# Altium schematic symbol library SS2FH10-M3&slash_H.SchLib: 2 symbols
Pins are listed as number, name and electrical type; pins without a type are passive.

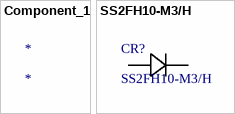
[diagram p0: symbols Component_1 to SS2FH10-M3/H]

## Component_1
designator *

## SS2FH10-M3/H
designator CR?
No Description Available; Mfr_Name: Vishay; Type: DEV; Copyright: Copyright (C) 2022 Ultra Librarian. All rights reserved.; Manufacturer_Part_Number: SS2FH10-M3/H; RefDes: RefDes
footprint CR_10-M3/H_VIS
pins: 1, 2